# Altium integrated library MC34063ADG.IntLib: 1 symbol
Pins are listed as number, name and electrical type; pins without a type are passive.

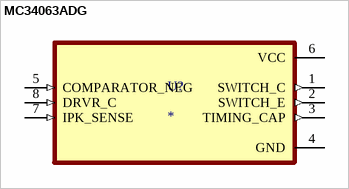
[diagram p0: symbol MC34063ADG]

## MC34063ADG
designator U?
Buck, Boost Switching Regulator IC Positive or Negative Adjustable 1.25V 1 Output 1.5A (Switch) 8-SOIC (0.154, 3.90mm Width); MF: ON Semiconductor; MP: MC34063ADG; SnapEDA_Link: https://www.snapeda.com/parts/MC34063ADG/Onsemi/view-part/?ref=snap; Package: SOIC-8 ON Semiconductor; Value: *; Check_prices: https://www.snapeda.com/parts/MC34063ADG/Onsemi/view-part/?ref=eda
footprint SOIC127P600X265-8N
pins: 1 SWITCH_C (out), 2 SWITCH_E (out), 3 TIMING_CAP (out), 4 GND (power), 5 COMPARATOR_NEG (in), 6 VCC (power), 7 IPK_SENSE (in), 8 DRVR_C (in)